# Altium schematic symbol library eSurf_handle.SchLib: 32 symbols
Pins are listed as number, name and electrical type; pins without a type are passive.

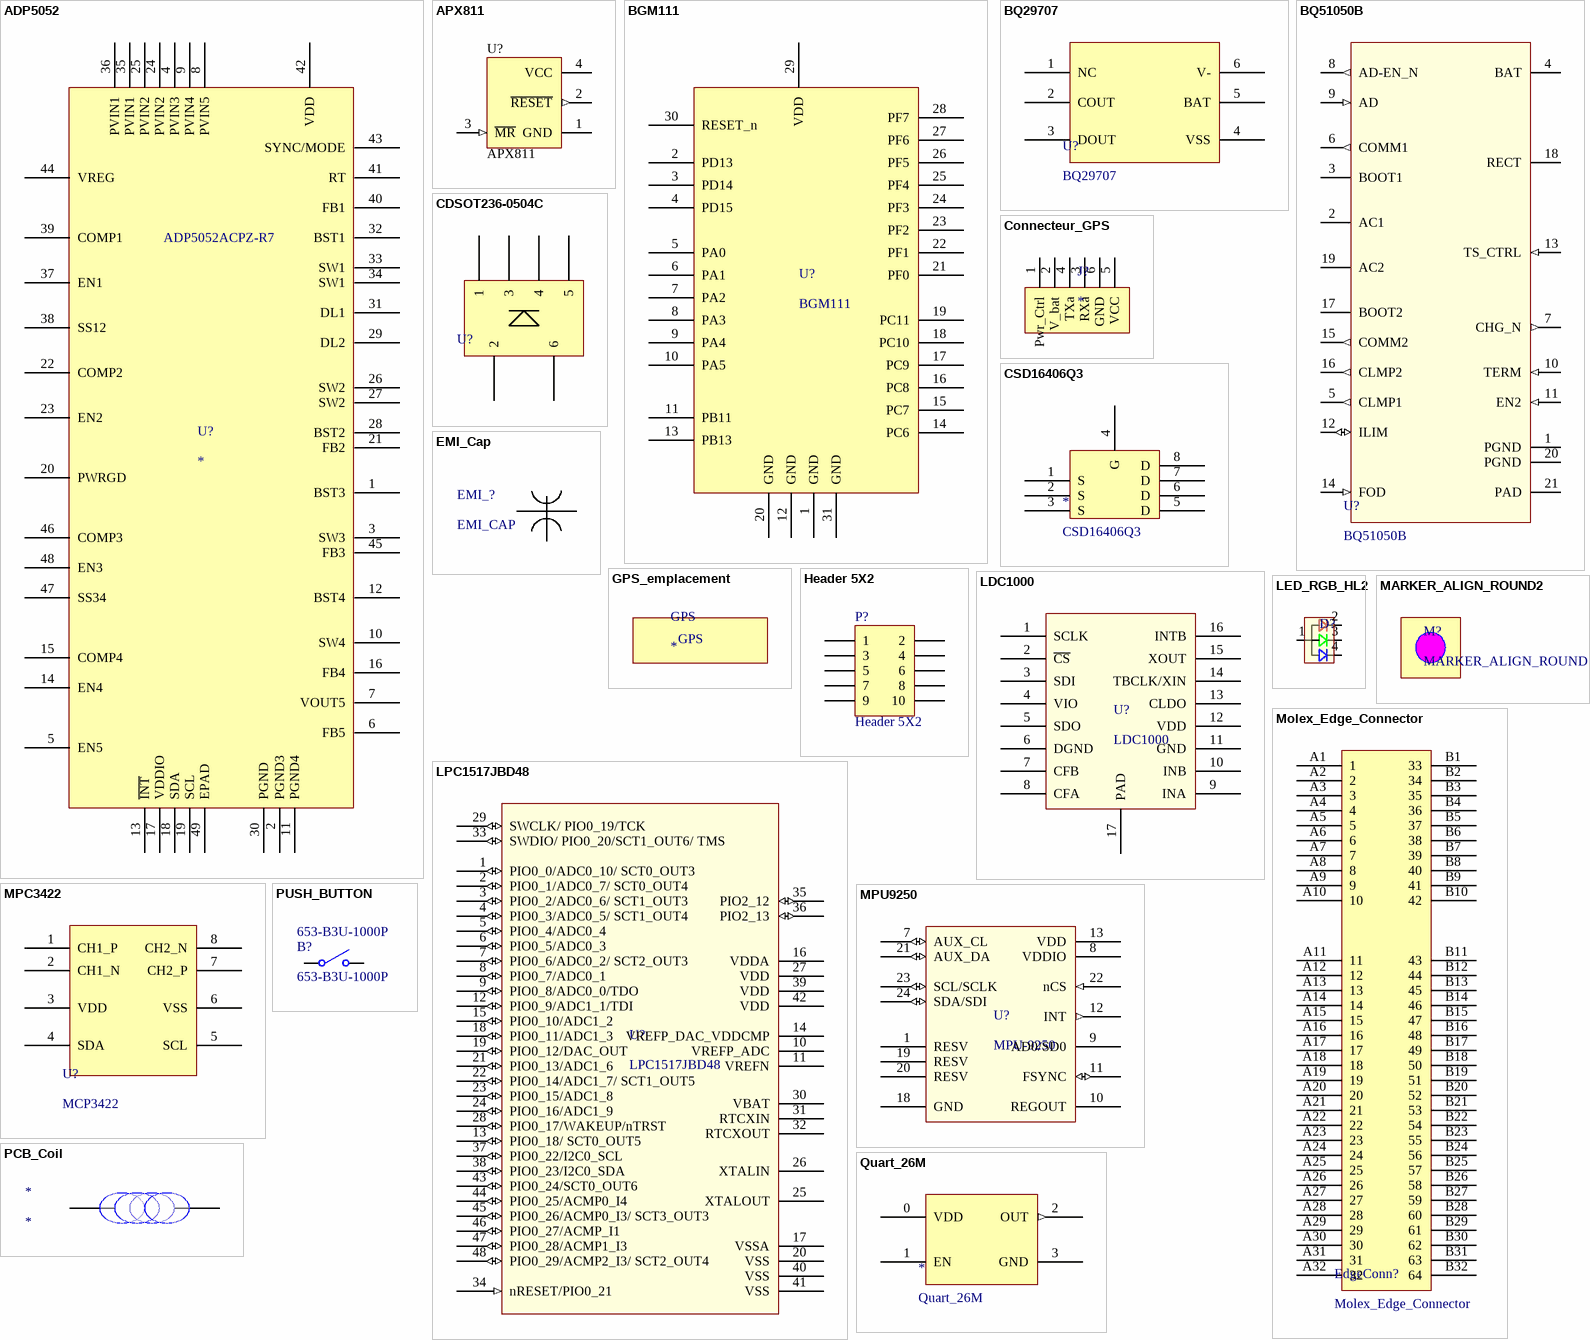
[diagram p0: symbols ADP5052 to Quart_26M]

## ADP5052
designator U?
Regulateur; RefDes: RefDes; Type: DEV; Value: Value
footprint CP_48_13
pins: 1 BST3, 2 PGND3, 3 SW3, 4 PVIN3, 5 EN5, 6 FB5, 7 VOUT5, 8 PVIN5, 9 PVIN4, 10 SW4, 11 PGND4, 12 BST4, 13 ~{INT}, 14 EN4, 15 COMP4, 16 FB4, 17 VDDIO, 18 SDA, 19 SCL, 20 PWRGD, 21 FB2, 22 COMP2, 23 EN2, 24 PVIN2, 25 PVIN2, 26 SW2, 27 SW2, 28 BST2, 29 DL2, 30 PGND, 31 DL1, 32 BST1, 33 SW1, 34 SW1, 35 PVIN1, 36 PVIN1, 37 EN1, 38 SS12, 39 COMP1, 40 FB1, 41 RT, 42 VDD, 43 SYNC/MODE, 44 VREG, 45 FB3, 46 COMP3, 47 SS34, 48 EN3, 49 EPAD
text: ADP5052ACPZ-R7

## APX811
designator U?
APX811 Open-Drain Output SOT Reset IC, Customized Reset Thresholds, Timeout Delays; Manufacturer: Diodes Inc; Manufacturer Part Number: APX811-29UG-7; Basculement sur la batterie de secours: No Backup; Number of Voltages Monitored: 1; Output: Push-Pull, Totem Pole; Reset: Active Low; Reset Timeout: 140 ms Minimum; Voltage - Threshold: 2.93V; RoHS: RoHS Compliant; Category: Integrated Circuits (ICs); Type: Simple Reset/Power-On Reset; Operating Temperature: -40°C ~ 85°C; Mounting Type: Surface Mount; Package / Case: TO-253-4, TO-253AA; Supplier Device Package: SOT-143; Packaging: Tape & Reel (TR); ComponentLink1URL: http://www.diodes.com/datasheets/APX811_812.pdf; ComponentLink1Description: http://www.diodes.com/datasheets/APX811_812.pdf; Supplier 1: Digi-Key; Supplier Part Number 1: APX811-29UG-7DICT-ND
footprint APX811 (SOT143, 4 Leads, Body 2.92x1.3mm, Pitch 1.92mm)
pins: 1 GND (power), 2 ~{RESET} (out), 3 ~{MR} (in), 4 VCC (power)

## BGM111
designator U?
Blue Geko Bluetooth
footprint WSON-31 (BGM111 Bluetooth footprint)
pins: 1 GND, 2 PD13, 3 PD14, 4 PD15, 5 PA0, 6 PA1, 7 PA2, 8 PA3, 9 PA4, 10 PA5, 11 PB11, 12 GND, 13 PB13, 14 PC6, 15 PC7, 16 PC8, 17 PC9, 18 PC10, 19 PC11, 20 GND, 21 PF0, 22 PF1, 23 PF2, 24 PF3, 25 PF4, 26 PF5, 27 PF6, 28 PF7, 29 VDD, 30 RESET_n, 31 GND

## BQ29707
designator U?
Battery protection
footprint S-PWSON-N6 (Plastic Small Outline No-Leads)
pins: 1 NC, 2 COUT, 3 DOUT, 4 VSS, 5 BAT, 6 V-

## BQ51050B
designator U?
IC, Wirless Secondary-Side Power Controller and Battery Chage
footprint YFF-28
pins: 1 PGND (power), 2 AC1 (power), 3 BOOT1 (power), 4 BAT (power), 5 CLMP1 (out), 6 COMM1 (out), 7 CHG_N (out), 8 AD-EN_N (out), 9 AD (in), 10 TERM (in), 11 EN2 (in), 12 ILIM (io), 13 TS_CTRL (in), 14 FOD (in), 15 COMM2 (out), 16 CLMP2 (out), 17 BOOT2 (power), 18 RECT (power), 19 AC2 (power), 20 PGND (power), 21 PAD

## CDSOT236-0504C
designator U?  (value not drawn)
Clamp
pins: 1, 2, 3, 4, 5, 6

## Connecteur_GPS
designator J?
GPS / PRT-10210
footprint Connecteur_GPS (PRT-10210)
pins: 1 Pwr_Ctrl, 2 V_bat, 3 RXa, 4 TXa, 5 VCC, 6 GND

## CSD16406Q3
designator *
Power MOSFET
pins: 1 S, 2 S, 3 S, 4 G, 5 D, 6 D, 7 D, 8 D

## EMI_Cap
designator EMI_?, comment EMI_CAP
Value: 220nF
footprint EMI_0805
pins: 0, 1, 2

## GPS_emplacement
designator GPS
Emplacement pris par le GPS
footprint GPS

## Header 5X2
designator P?
Header, 5-Pin, Dual row; Part Number: M50-3600542; Manufacturer: Harwin Inc; LatestRevisionDate: 17-Jul-2002; LatestRevisionNote: Re-released for DXP Platform.; Publisher: Altium Limited; Supplier 1: Digi-Key; Supplier Part Number 1: 952-1389-ND
footprint M50-3600542
pins: 1, 2, 3, 4, 5, 6, 7, 8, 9, 10

## LDC1000
designator U?
LDC1000 Inductance-to-Digital Converter
footprint NHR0016B (LDC1000 Inductance-to-digital converter)
pins: 1 SCLK, 2 ~{CS}, 3 SDI, 4 VIO, 5 SDO, 6 DGND, 7 CFB, 8 CFA, 9 INA, 10 INB, 11 GND, 12 VDD, 13 CLDO, 14 TBCLK/XIN, 15 XOUT, 16 INTB, 17 PAD

## LED_RGB_HL2
designator D?, comment SML-LX0404SIUPGUSB  (value not drawn)
LED RGB; Manufacturer: Lumex Opto/Components Inc; Color: Red, Green, Blue (RGB); Millicandela Rating: 30mcd Red, 40mcd Green, 20mcd Blue; Voltage - Forward (Vf) Typ: 1.95V Red, 2.85V Green, 2.73V Blue; Current - Test: 2mA; Wavelength - Peak: 632nm, 518nm, 465nm; Viewing Angle: 120°; Lens Type: Clear; Lens Style/Size: Square with Flat Top, 1mm; Lens Colour/Style: Water Clear; LED Size: 1 mm x 1 mm; Luminous Intensity: 30 mcd; Peak Wavelength: 632 nm; Product Status: New Technology; RoHS: RoHS Compliant; Wavelength - Dominant: -; Package / Case: 0404 (1010 Metric); Size / Dimension: 1.00mm L x 1.00mm W; Height: 0.25mm; Mounting Type: Surface Mount; Packaging: Tape & Reel (TR); Luminous Flux @ Current - Test: -; ComponentLink1URL: http://media.digikey.com/pdf/Data%20Sheets/Lumex%20PDFs/SML-LX0404SIUPGUSB.pdf; ComponentLink1Description: http://media.digikey.com/pdf/Data%20Sheets/Lumex%20PDFs/SML-LX0404SIUPGUSB.pdf; Supplier 1: Mouser; Illumination Colour: RGB; Package/Case: 0404; Lens Dimensions: 1 mm x 1mm x 0.25 mm; Maximum Operating Temperature: + 85 C; Minimum Operating Temperature: - 40 C; Product Category: Surface Mount LED Lamps; RoHS - Mouser: Y; Minimum Order Quantity: 1; Reeling: True; ComponentLink2URL: http://www.mouser.com/catalog/specsheets/SML-LX0404SIUPGUSB.pdf; ComponentLink2Description: http://www.mouser.com/catalog/specsheets/SML-LX0404SIUPGUSB.pdf; Manufacturer Part Number: SML-LX0404SIUPGUSB; Category: Optoelectronics; Supplier Part Number 1: 696-LX0404SIUPGUSB; Stock 1: 738; Pricing 1: 1=0.770, 10=0.696, 100=0.640, 200=0.623, 500=0.576, 1000=0.507, 2000=0.491, 5000=0.418 (CHF)
footprint LEDRGB_1615 (SOIC, 4-Leads, Body 1.6x1.7mm (max), Pitch 1.27mm, IPC Medium Density)
pins: 1 AC, 2 KR, 3 KB, 4 KV

## LPC1517JBD48
designator U?
Supplier 1: Mouser; Supplier 2: Digi-Key
footprint SOT313-2_V (Thin QFP, 48-Leads, Body 7x7mm, Pitch 0.5mm, NXP Recommended)
pins: 1 PIO0_0/ADC0_10/ SCT0_OUT3 (io), 2 PIO0_1/ADC0_7/ SCT0_OUT4 (io), 3 PIO0_2/ADC0_6/ SCT1_OUT3 (io), 4 PIO0_3/ADC0_5/ SCT1_OUT4 (io), 5 PIO0_4/ADC0_4 (io), 6 PIO0_5/ADC0_3 (io), 7 PIO0_6/ADC0_2/ SCT2_OUT3 (io), 8 PIO0_7/ADC0_1 (io), 9 PIO0_8/ADC0_0/TDO (io), 10 VREFP_ADC, 11 VREFN, 12 PIO0_9/ADC1_1/TDI (io), 13 PIO0_18/ SCT0_OUT5 (io), 14 VREFP_DAC_VDDCMP, 15 PIO0_10/ADC1_2 (io), 16 VDDA (power), 17 VSSA (power), 18 PIO0_11/ADC1_3 (io), 19 PIO0_12/DAC_OUT (io), 20 VSS (power), 21 PIO0_13/ADC1_6 (io), 22 PIO0_14/ADC1_7/ SCT1_OUT5 (io), 23 PIO0_15/ADC1_8 (io), 24 PIO0_16/ADC1_9 (io), 25 XTALOUT, 26 XTALIN, 27 VDD, 28 PIO0_17/WAKEUP/nTRST (io), 29 SWCLK/ PIO0_19/TCK (io), 30 VBAT (power), 31 RTCXIN, 32 RTCXOUT, 33 SWDIO/ PIO0_20/SCT1_OUT6/ TMS (io), 34 nRESET/PIO0_21 (in), 35 PIO2_12 (io), 36 PIO2_13 (io), 37 PIO0_22/I2C0_SCL (io), 38 PIO0_23/I2C0_SDA (io), 39 VDD (power), 40 VSS (power), 41 VSS (power), 42 VDD (power), 43 PIO0_24/SCT0_OUT6 (io), 44 PIO0_25/ACMP0_I4 (io), 45 PIO0_26/ACMP0_I3/ SCT3_OUT3 (io), 46 PIO0_27/ACMP_I1 (io), 47 PIO0_28/ACMP1_I3 (io), 48 PIO0_29/ACMP2_I3/ SCT2_OUT4 (io)

## MARKER_ALIGN_ROUND2
designator M?
Marker_round_2
footprint Marker_align_1mm
pins: 1 hidden

## Molex_Edge_Connector
designator EdgeConn?
Molex
footprint Molex_Edge
pins: A1 1, A2 2, A3 3, A4 4, A5 5, A6 6, A7 7, A8 8, A9 9, A10 10, A11 11, A12 12, A13 13, A14 14, A15 15, A16 16, A17 17, A18 18, A19 19, A20 20, A21 21, A22 22, A23 23, A24 24, A25 25, A26 26, A27 27, A28 28, A29 29, A30 30, A31 31, A32 32, B1 33, B2 34, B3 35, B4 36, B5 37, B6 38, B7 39, B8 40, B9 41, B10 42, B11 43, B12 44, B13 45, B14 46, B15 47, B16 48, B17 49, B18 50, B19 51, B20 52, B21 53, B22 54, B23 55, B24 56, B25 57, B26 58, B27 59, B28 60, B29 61, B30 62, B31 63, B32 64

## MPC3422
designator U?, comment MCP3422
MPC3422 - Multi Channel ADC converter with I2C
footprint DFN8 (DFN, 8-Leads, Body 3.00x2.00mm, Pitch 0.50mm, Thermal Pad 1.63x1.43mm, IPC Medium Density)
pins: 1 CH1_P, 2 CH1_N, 3 VDD, 4 SDA, 5 SCL, 6 VSS, 7 CH2_P, 8 CH2_N

## MPU9250
designator U?, comment MPU-9250
Accelerometer 9 axis; Supplier 1: Digi-Key; Supplier Part Number 1: 1428-1019-1-ND
footprint MPU-9250_QFN (QFN, 24-Leads, Body 3.00x3.00mm, Pitch 0.40mm, Thermal Pad 1.70x1.70mm, IPC Medium Density)
pins: 1 RESV, 7 AUX_CL (io), 8 VDDIO (power), 9 AD0/SD0, 10 REGOUT, 11 FSYNC (io), 12 INT (out), 13 VDD (power), 18 GND, 19 RESV, 20 RESV, 21 AUX_DA (io), 22 nCS (in), 23 SCL/SCLK (io), 24 SDA/SDI (io)

## PCB_Coil
designator *
footprint PCB_Coil
pins: 0, 1

## PUSH_BUTTON
designator B?, comment 653-B3U-1000P
Supplier 1: Mouser; Supplier Part Number 1: 653-B3U-1000P
footprint B3U-1000P (B3U-OMRON)
pins: 1, 2

## Quart_26M
designator *
footprint DFN-4
pins: 0 VDD, 1 EN, 2 OUT (out), 3 GND

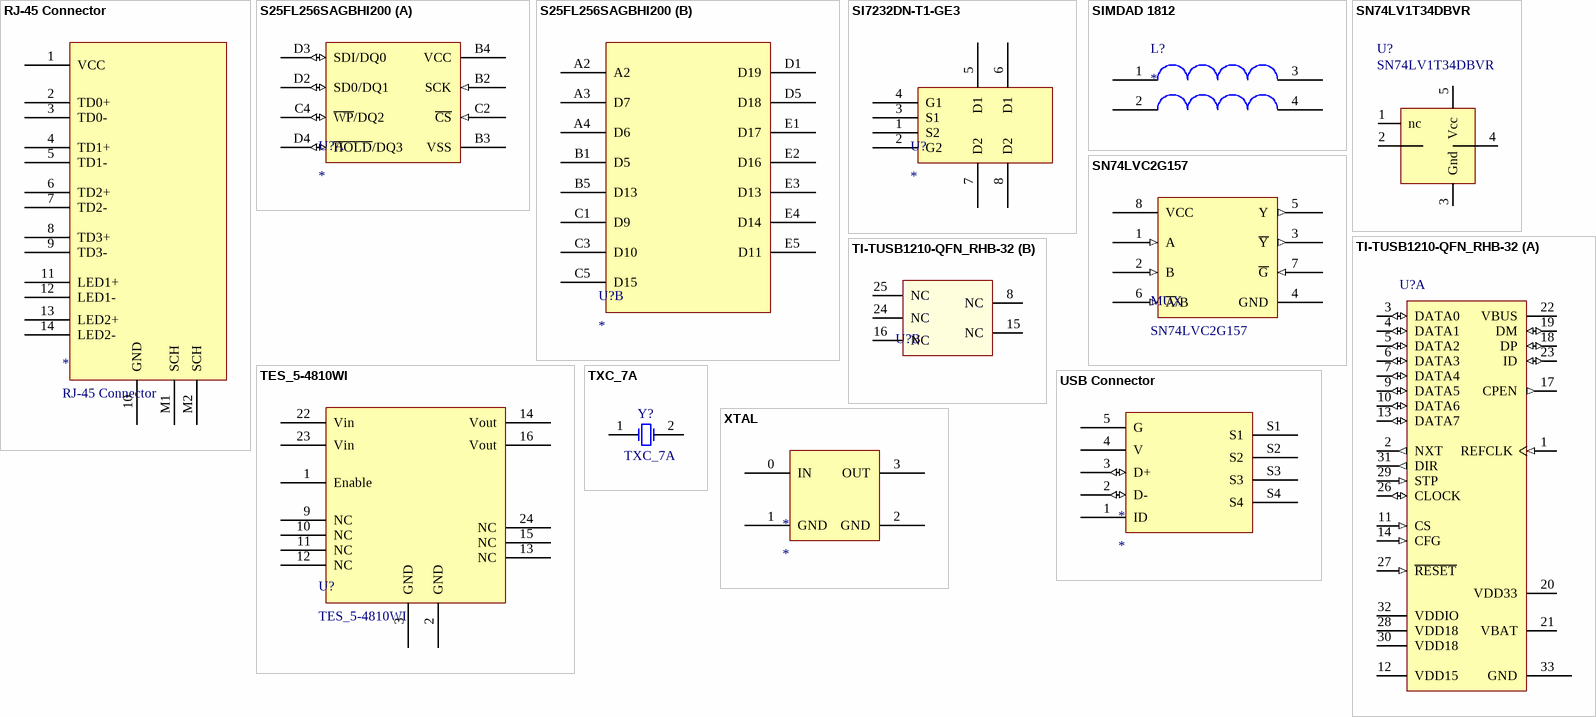
[diagram p1: symbols RJ-45 Connector to XTAL]

## RJ-45 Connector
designator *
HFJ11-1G01ERL
pins: 1 VCC, 2 TD0+, 3 TD0-, 4 TD1+, 5 TD1-, 6 TD2+, 7 TD2-, 8 TD3+, 9 TD3-, 10 GND, 11 LED1+, 12 LED1-, 13 LED2+, 14 LED2-, M1 SCH, M2 SCH

## S25FL256SAGBHI200
designator U?
QSPI
footprint BGA_25Balls (S25FL256SAGBHI200)
part A pins: B2 SCK (in), B3 VSS, B4 VCC, C2 ~{CS} (in), C4 ~{WP}/DQ2 (io), D2 SD0/DQ1 (io), D3 SDI/DQ0 (io), D4 ~{HOLD}/DQ3 (io)
part B pins: A2, A3 D7, A4 D6, B1 D5, B5 D13, C1 D9, C3 D10, C5 D15, D1 D19, D5 D18, E1 D17, E2 D16, E3 D13, E4 D14, E5 D11

## SI7232DN-T1-GE3
designator U?
Dual N-Channel
pins: 1 S2, 2 G2, 3 S1, 4 G1, 5 D1, 6 D1, 7 D2, 8 D2

## SIMDAD 1812
designator L?
Part Number: B82789C0113N002; Manufacturer: TDK / EPCOS; Supplier 1: Mouser; Supplier Part Number 1: 871-B82789C0113N002
footprint SIMDAD1812 (Inductance double pour ferrite bus CAN)
pins: 1 (power), 2 (power), 3 (power), 4 (power)

## SN74LV1T34DBVR
designator U?
SingleGate_Buffer_LevelAdapter; Part: SN74LV1T34DBVR
footprint SOT95P280X100-5M (SOT23, 5-Leads, Body 2,9x2,8mm (max), Pitch 0,95mm, IPC Low Density)
pins: 1 nc "Buffer", 2 "Buffer", 3 Gnd (power) "Buffer", 4 Y "Buffer", 5 Vcc (power) "Buffer"

## SN74LVC2G157
designator MUX
Mux
footprint YZP8
pins: 1 A (in), 2 B (in), 3 ~{Y} (out), 4 GND (power), 5 Y (out), 6 ~{A}/B (in), 7 ~{G} (in), 8 VCC (power)

## TES_5-4810WI
designator U?
DC/DC conervter (In 18 – 75 VDC / Out 3.3 VDC)
pins: 1 Enable, 2 GND, 3 GND, 9 NC, 10 NC, 11 NC, 12 NC, 13 NC, 14 Vout, 15 NC, 16 Vout, 22 Vin, 23 Vin, 24 NC

## TI-TUSB1210-QFN_RHB-32
designator U?
footprint RHB32-3450X3450TP (QFN, 32-Leads, Body 5x5mm, Pitch 0.5mm, Thermal Pad 3.45x3.45mm, TI Recommended)
part A pins: 1 REFCLK (in) "VDD33 Reference clock input.Tie to GND when pin 26(CLOCK) is required to be Input mode. Connect to square-wave reference clock of amplitude in the range of 3 V to 3. [see datasheet]", 2 NXT (out) "ULPI NXT output signal", 3 DATA0 (io) "ULPI DATA input/output signal 0 synchronized to CLOCK", 4 DATA1 (io) "ULPI DATA input/output signal 1 synchronized to CLOCK", 5 DATA2 (io) "ULPI DATA input/output signal 2 synchronized to CLOCK", 6 DATA3 (io) "ULPI DATA input/output signal 3 synchronized to CLOCK", 7 DATA4 (io) "ULPI DATA input/output signal 4 synchronized to CLOCK", 9 DATA5 (io) "ULPI DATA input/output signal 6 synchronized to CLOCK", 10 DATA6 (io) "ULPI DATA input/output signal 6 synchronized to CLOCK", 11 CS (in) "Active-high chip select pin. When low the IC is in power down and ULPIbus is tri-stated. When high normal operation. Tie to VDDIO if unused.", 12 VDD15 (power) "1.5-V internal LDO output. Connect to external filtering capacitor.", 13 DATA7 (io) "ULPI DATA input/output signal 7 synchronized to CLOCK", 14 CFG (in) "REFCLK clock frequency configuration pin. Two frequencies are IO supported: 19.2 MHz when 0, or 26 MHz when 1", 17 CPEN (out) "CMOS active-high digital output control of external 5V VBUS supply", 18 DP (io) "DP pin of the USB connector", 19 DM (io) "DM pin of the USB connector", 20 VDD33 (power) "3.3-V internal LDO output. Connect to external filtering capacitor", 21 VBAT (power) "Input supply voltage or battery source", 22 VBUS (power) "VBUS pin of the USB connector", 23 ID (io) "Identification (ID) pin of the USB connector", 26 CLOCK (io) "ULPI 60 MHz clock on which ULPI data is synchronized.Two modes are possible:Input Mode: CLOCK defaults as an input. [see datasheet]", 27 ~{RESET} (in) "When low, all digital logic including registers are reset to their default values, and ULPI bus is tri-stated. When high, normal USB operation.", 28 VDD18 (power) "External 1.8-V supply input. Connect to external filtering capacitor.", 29 STP (in) "ULPI STP input signal", 30 VDD18 (power) "External 1.8-V supply input. Connect to external filtering capacitor", 31 DIR (out) "ULPI DIR output signal", 32 VDDIO (power) "External 1.8V supply input for digital I/Os. Connect to external filtering capacitor", 33 GND
part B pins: 8 NC "No connect", 15 NC "No connect", 16 NC "No connect", 24 NC "No connect", 25 NC "No connect"

## TXC_7A
designator Y?
Crystal Oscillator; value: 12 MHz; Published: 8-Jun-2000; LatestRevisionDate: 17-Jul-2002; LatestRevisionNote: Re-released for DXP Platform.; PackageReference: R38; Publisher: Altium Limited; PackageDescription: Crystal, Thru-Hole; 2 Leads; Body 3.1 x 8.2 mm (Dia.xH); Supplier 1: Digi-Key; Supplier Part Number 1: 887-1743-1-ND
footprint QUARTZ_5.0_3.2
pins: 1 OSC1, 2 OSC2

## USB Connector
designator *
pins: 1 ID, 2 D- (io), 3 D+ (io), 4 V, 5 G, S1, S2, S3, S4

## XTAL
designator *
pins: 0 IN, 1 GND, 2 GND, 3 OUT